# EAGLE library part LBB110?* (library opto-mos)
LBB110 is a dual normally closed (1-Form-B) solid state relay that has two independently controlled, optically coupled MOSFET switches in an 8-pin SOIC package that employs optically coupled MOSFET technology to provide 3750Vrms of input to output isolation.
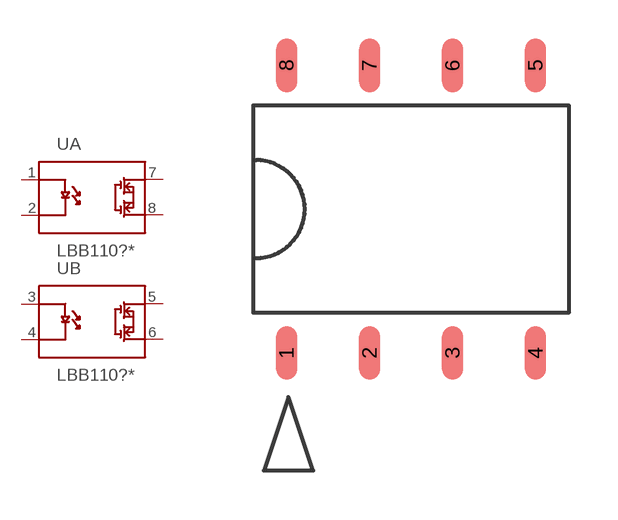
[diagram p0: symbol with the pads of DIP-SMD-8; footprint DIP-SMD-8]

Designator prefix -; gates A=OPTOMOS B=OPTOMOS

## LBB110P (MF: IXYS; MPN: LBB110P), LBB110PTR (MF: IXYS; MPN: LBB110PTR)  [DIP-SMD-8]
1  A:LA  in
2  A:LK  in
3  B:LA  in
4  B:LK  in
5  B:C1
6  B:C2
7  A:C1
8  A:C2

## LBB110S (MF: IXYS; MPN: LBB110S), LBB110STR (MF: IXYS; MPN: LBB110STR)  [DIP-SMD-8]
Pads as for DIP-SMD-8

## Footprint DIP-SMD-8 (pad centres in mm)
smd 0.65 x 1.65: 1 -3.81,-4.4; 2 -1.27,-4.4; 3 1.27,-4.4; 4 3.81,-4.4; 5 3.81,4.4; 6 1.27,4.4; 7 -1.27,4.4; 8 -3.81,4.4